# EAGLE library part V23079A1003B301 (library CASE-Relay)
V23079-A1003-B301 - DPDT non latch signal relay, 12VDC Description: V23079-A1003-B301 - DPDT non latch signal relay, through hole, 12VDC, 2A Rated current. Links: Datasheet <http://www.farnell.com/datasheets/1918069.pdf?_ga=2.91596121.236001324.1551687660-368635712.1550490484>
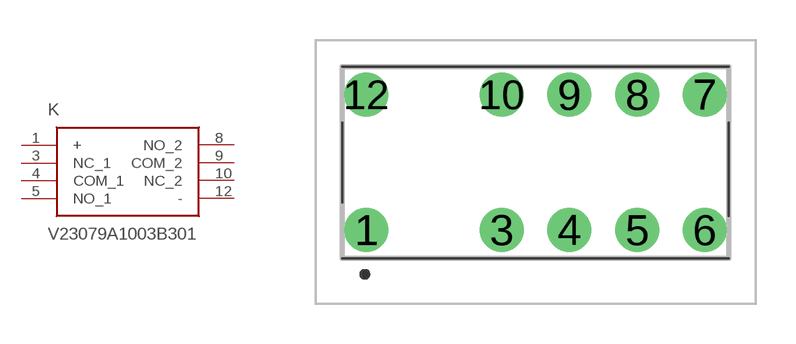
[diagram p0: symbol with the pads of 413937885; footprint 413937885]

Designator prefix K

## V23079A1003B301 (DESCRIPTION: DPDT non latch PCB relay, 5A 12Vdc coil; HEIGHT: 9mm; MANUFACTURER_NAME: TE Connectivity; MANUFACTURER_PART_NUMBER: V23079A1003B301; MOUSER_PART_NUMBER: 655-V23079A1003B301; MOUSER_PRICE-STOCK: https://www.mouser.com/Search/Refine.aspx?Keyword=655-V23079A1003B301)  [413937885]
1  +
3  NC_1
4  COM_1
5  NO_1
8  NO_2
9  COM_2
10  NC_2
12  -

## Footprint 413937885 (pad centres in mm)
4-1393788-5
drill 1.1 pad 1.65: 1 -6.35,-2.54; 3 -1.27,-2.54; 4 1.27,-2.54; 5 3.81,-2.54; 6 6.35,-2.54; 7 6.35,2.54; 8 3.81,2.54; 9 1.27,2.54; 10 -1.27,2.54; 12 -6.35,2.54